# Altium footprint library CONN_HDR_2.54MM_ST.PcbLib: 159 footprints (part 8 of 13)
Each footprint in its own frame and in the unit in brackets; x right, y up, seen from the top. Pads: shape width x height; smd on the part's side, far side on the other; paste and mask are expansions set on the pad; w line width, h text height; cw(c..) or ccw(c..) is an arc to the next point about the centre after c.
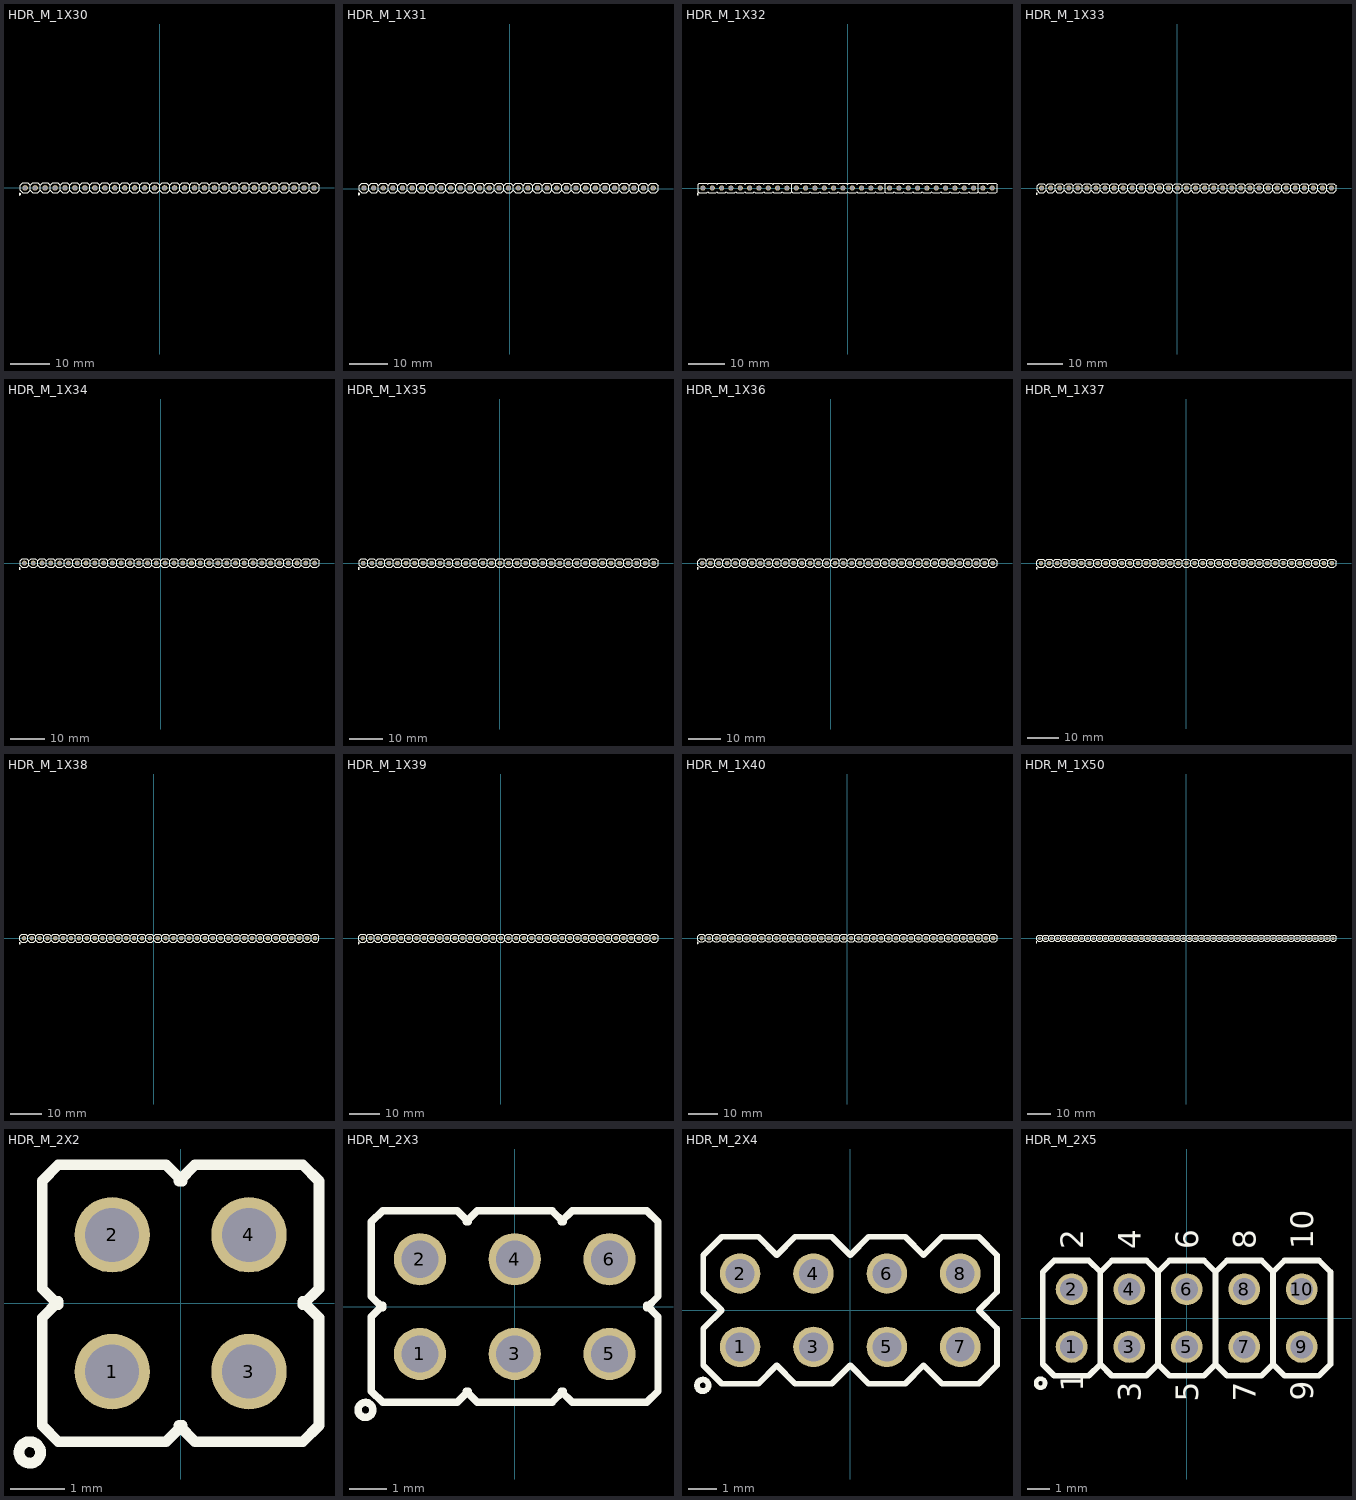
[diagram p7: the footprints below, top view; thin cyan lines are the x and y axes]

## HDR_M_1X30 [mm] "Connector; Header; 30 Position"
height 7.5
pads (30):
  round 1.4 / inner round 1.4 / far side oval 1.4x2.2 hole 1: 1(-34.29,0) 2(-31.75,0) 3(-29.21,0) 4(-26.67,0) 5(-24.13,0) 6(-21.59,0) 7(-19.05,0) 8(-16.51,0) 9(-13.97,0) 10(-11.43,0) 11(-8.89,0) 12(-6.35,0) 13(-3.81,0) 14(-1.27,0) 15(1.27,0) 16(3.81,0) 17(6.35,0) 18(8.89,0) 19(11.43,0) 20(13.97,0) 21(16.51,0) 22(19.05,0) 23(21.59,0) 24(24.13,0) 25(26.67,0) 26(29.21,0) 27(31.75,0) 28(34.29,0) 29(36.83,0) 30(39.37,0)
TopOverlay:
  drawing of 212 lines, arcs and shapes, not listed
3D body "PLS-1.step": height 8.54, standoff -2.9, extent 35.585,-1.27 38.125,1.27
3D body "PLS-1.step": height 8.54, standoff -2.9, extent 30.505,-1.27 33.045,1.27
3D body "PLS-1.step": height 8.54, standoff -2.9, extent 25.425,-1.27 27.965,1.27
3D body "PLS-1.step": height 8.54, standoff -2.9, extent 22.885,-1.27 25.425,1.27
3D body "PLS-1.step": height 8.54, standoff -2.9, extent 20.345,-1.27 22.885,1.27
3D body "PLS-1.step": height 8.54, standoff -2.9, extent 15.265,-1.27 17.805,1.27
3D body "PLS-1.step": height 8.54, standoff -2.9, extent 10.185,-1.27 12.725,1.27
3D body "PLS-1.step": height 8.54, standoff -2.9, extent 5.105,-1.27 7.645,1.27
3D body "PLS-1.step": height 8.54, standoff -2.9, extent 0.025,-1.27 2.565,1.27
3D body "PLS-1.step": height 8.54, standoff -2.9, extent -5.055,-1.27 -2.515,1.27
3D body "PLS-1.step": height 8.54, standoff -2.9, extent -7.595,-1.27 -5.055,1.27
3D body "PLS-1.step": height 8.54, standoff -2.9, extent -12.675,-1.27 -10.135,1.27
3D body "PLS-1.step": height 8.54, standoff -2.9, extent -17.755,-1.27 -15.215,1.27
3D body "PLS-1.step": height 8.54, standoff -2.9, extent -32.995,-1.27 -30.455,1.27
3D body "PLS-1.step": height 8.54, standoff -2.9, extent -35.535,-1.27 -32.995,1.27
3D body "PLS-1.step": height 8.54, standoff -2.9, extent -30.455,-1.27 -27.915,1.27
3D body "PLS-1.step": height 8.54, standoff -2.9, extent -27.915,-1.27 -25.375,1.27
3D body "PLS-1.step": height 8.54, standoff -2.9, extent -25.375,-1.27 -22.835,1.27
3D body "PLS-1.step": height 8.54, standoff -2.9, extent -22.835,-1.27 -20.295,1.27
3D body "PLS-1.step": height 8.54, standoff -2.9, extent -20.295,-1.27 -17.755,1.27
3D body "PLS-1.step": height 8.54, standoff -2.9, extent -15.215,-1.27 -12.675,1.27
3D body "PLS-1.step": height 8.54, standoff -2.9, extent -10.135,-1.27 -7.595,1.27
3D body "PLS-1.step": height 8.54, standoff -2.9, extent -2.515,-1.27 0.025,1.27
3D body "PLS-1.step": height 8.54, standoff -2.9, extent 2.565,-1.27 5.105,1.27
3D body "PLS-1.step": height 8.54, standoff -2.9, extent 7.645,-1.27 10.185,1.27
3D body "PLS-1.step": height 8.54, standoff -2.9, extent 12.725,-1.27 15.265,1.27
3D body "PLS-1.step": height 8.54, standoff -2.9, extent 17.805,-1.27 20.345,1.27
3D body "PLS-1.step": height 8.54, standoff -2.9, extent 27.965,-1.27 30.505,1.27
3D body "PLS-1.step": height 8.54, standoff -2.9, extent 33.045,-1.27 35.585,1.27
3D body "PLS-1.step": height 8.54, standoff -2.9, extent 38.125,-1.27 40.665,1.27

## HDR_M_1X31 [mm] "Connector; Header; 31 Position"
height 7.5
pads (31):
  round 1.4 / inner round 1.4 / far side oval 1.4x2.2 hole 1: 1(-38.354,0.254) 2(-35.814,0.254) 3(-33.274,0.254) 4(-30.734,0.254) 5(-28.194,0.254) 6(-25.654,0.254) 7(-23.114,0.254) 8(-20.574,0.254) 9(-18.034,0.254) 10(-15.494,0.254) 11(-12.954,0.254) 12(-10.414,0.254) 13(-7.874,0.254) 14(-5.334,0.254) 15(-2.794,0.254) 16(-0.254,0.254) 17(2.286,0.254) 18(4.826,0.254) 19(7.366,0.254) 20(9.906,0.254) 21(12.446,0.254) 22(14.986,0.254) 23(17.526,0.254) 24(20.066,0.254) 25(22.606,0.254) 26(25.146,0.254) 27(27.686,0.254) 28(30.226,0.254) 29(32.766,0.254) 30(35.306,0.254) 31(37.846,0.254)
TopOverlay:
  drawing of 219 lines, arcs and shapes, not listed
3D body "PLS-1.step": height 8.54, standoff -2.9, extent 34.061,-1.016 36.601,1.524
3D body "PLS-1.step": height 8.54, standoff -2.9, extent 28.981,-1.016 31.521,1.524
3D body "PLS-1.step": height 8.54, standoff -2.9, extent 23.901,-1.016 26.441,1.524
3D body "PLS-1.step": height 8.54, standoff -2.9, extent 13.741,-1.016 16.281,1.524
3D body "PLS-1.step": height 8.54, standoff -2.9, extent 8.661,-1.016 11.201,1.524
3D body "PLS-1.step": height 8.54, standoff -2.9, extent 3.581,-1.016 6.121,1.524
3D body "PLS-1.step": height 8.54, standoff -2.9, extent -1.499,-1.016 1.041,1.524
3D body "PLS-1.step": height 8.54, standoff -2.9, extent -6.579,-1.016 -4.039,1.524
3D body "PLS-1.step": height 8.54, standoff -2.9, extent -14.199,-1.016 -11.659,1.524
3D body "PLS-1.step": height 8.54, standoff -2.9, extent -19.279,-1.016 -16.739,1.524
3D body "PLS-1.step": height 8.54, standoff -2.9, extent -24.359,-1.016 -21.819,1.524
3D body "PLS-1.step": height 8.54, standoff -2.9, extent -26.899,-1.016 -24.359,1.524
3D body "PLS-1.step": height 8.54, standoff -2.9, extent -29.439,-1.016 -26.899,1.524
3D body "PLS-1.step": height 8.54, standoff -2.9, extent -31.979,-1.016 -29.439,1.524
3D body "PLS-1.step": height 8.54, standoff -2.9, extent -34.519,-1.016 -31.979,1.524
3D body "PLS-1.step": height 8.54, standoff -2.9, extent -39.599,-1.016 -37.059,1.524
3D body "PLS-1.step": height 8.54, standoff -2.9, extent -37.059,-1.016 -34.519,1.524
3D body "PLS-1.step": height 8.54, standoff -2.9, extent -21.819,-1.016 -19.279,1.524
3D body "PLS-1.step": height 8.54, standoff -2.9, extent -16.739,-1.016 -14.199,1.524
3D body "PLS-1.step": height 8.54, standoff -2.9, extent -11.659,-1.016 -9.119,1.524
3D body "PLS-1.step": height 8.54, standoff -2.9, extent -9.119,-1.016 -6.579,1.524
3D body "PLS-1.step": height 8.54, standoff -2.9, extent -4.039,-1.016 -1.499,1.524
3D body "PLS-1.step": height 8.54, standoff -2.9, extent 1.041,-1.016 3.581,1.524
3D body "PLS-1.step": height 8.54, standoff -2.9, extent 6.121,-1.016 8.661,1.524
3D body "PLS-1.step": height 8.54, standoff -2.9, extent 11.201,-1.016 13.741,1.524
3D body "PLS-1.step": height 8.54, standoff -2.9, extent 16.281,-1.016 18.821,1.524
3D body "PLS-1.step": height 8.54, standoff -2.9, extent 18.821,-1.016 21.361,1.524
3D body "PLS-1.step": height 8.54, standoff -2.9, extent 21.361,-1.016 23.901,1.524
3D body "PLS-1.step": height 8.54, standoff -2.9, extent 26.441,-1.016 28.981,1.524
3D body "PLS-1.step": height 8.54, standoff -2.9, extent 31.521,-1.016 34.061,1.524
3D body "PLS-1.step": height 8.54, standoff -2.9, extent 36.601,-1.016 39.141,1.524

## HDR_M_1X32 [mm] "Connector; Header; 32 Position"
pads (32):
  round 1.4 / inner round 1.4 / far side oval 1.4x2.2 hole 1 mask+0.1: 1(-39.37,0) 2(-36.83,0) 3(-34.29,0) 4(-31.75,0) 5(-29.21,0) 6(-26.67,0) 7(-24.13,0) 8(-21.59,0) 9(-19.05,0) 10(-16.51,0) 11(-13.97,0) 12(-11.43,0) 13(-8.89,0) 14(-6.35,0) 15(-3.81,0) 16(-1.27,0) 17(1.27,0) 18(3.81,0) 19(6.35,0) 20(8.89,0) 21(11.43,0) 22(13.97,0) 23(16.51,0) 24(19.05,0) 25(21.59,0) 26(24.13,0) 27(26.67,0) 28(29.21,0) 29(31.75,0) 30(34.29,0) 31(36.83,0) 32(39.37,0)
TopOverlay:
  drawing of 198 lines, arcs and shapes, not listed
3D body "User Library-Header_Male_1Pin.STEP": height 8.54, standoff -3, extent 38.1,-1.245 40.64,1.245
3D body "User Library-Header_Male_1Pin.STEP": height 8.54, standoff -3, extent 35.56,-1.245 38.1,1.245
3D body "User Library-Header_Male_1Pin.STEP": height 8.54, standoff -3, extent 33.02,-1.245 35.56,1.245
3D body "User Library-Header_Male_1Pin.STEP": height 8.54, standoff -3, extent 30.48,-1.245 33.02,1.245
3D body "User Library-Header_Male_1Pin.STEP": height 8.54, standoff -3, extent 27.94,-1.245 30.48,1.245
3D body "User Library-Header_Male_1Pin.STEP": height 8.54, standoff -3, extent 25.4,-1.245 27.94,1.245
3D body "User Library-Header_Male_1Pin.STEP": height 8.54, standoff -3, extent 22.86,-1.245 25.4,1.245
3D body "User Library-Header_Male_1Pin.STEP": height 8.54, standoff -3, extent 20.32,-1.245 22.86,1.245
3D body "User Library-Header_Male_1Pin.STEP": height 8.54, standoff -3, extent 17.78,-1.245 20.32,1.245
3D body "User Library-Header_Male_1Pin.STEP": height 8.54, standoff -3, extent 15.24,-1.245 17.78,1.245
3D body "User Library-Header_Male_1Pin.STEP": height 8.54, standoff -3, extent 12.7,-1.245 15.24,1.245
3D body "User Library-Header_Male_1Pin.STEP": height 8.54, standoff -3, extent 10.16,-1.245 12.7,1.245
3D body "User Library-Header_Male_1Pin.STEP": height 8.54, standoff -3, extent 7.62,-1.245 10.16,1.245
3D body "User Library-Header_Male_1Pin.STEP": height 8.54, standoff -3, extent 5.08,-1.245 7.62,1.245
3D body "User Library-Header_Male_1Pin.STEP": height 8.54, standoff -3, extent 2.54,-1.245 5.08,1.245
3D body "User Library-Header_Male_1Pin.STEP": height 8.54, standoff -3, extent 0,-1.245 2.54,1.245
3D body "User Library-Header_Male_1Pin.STEP": height 8.54, standoff -3, extent -2.54,-1.245 0,1.245
3D body "User Library-Header_Male_1Pin.STEP": height 8.54, standoff -3, extent -5.08,-1.245 -2.54,1.245
3D body "User Library-Header_Male_1Pin.STEP": height 8.54, standoff -3, extent -7.62,-1.245 -5.08,1.245
3D body "User Library-Header_Male_1Pin.STEP": height 8.54, standoff -3, extent -10.16,-1.245 -7.62,1.245
3D body "User Library-Header_Male_1Pin.STEP": height 8.54, standoff -3, extent -12.7,-1.245 -10.16,1.245
3D body "User Library-Header_Male_1Pin.STEP": height 8.54, standoff -3, extent -15.24,-1.245 -12.7,1.245
3D body "User Library-Header_Male_1Pin.STEP": height 8.54, standoff -3, extent -17.78,-1.245 -15.24,1.245
3D body "User Library-Header_Male_1Pin.STEP": height 8.54, standoff -3, extent -20.32,-1.245 -17.78,1.245
3D body "User Library-Header_Male_1Pin.STEP": height 8.54, standoff -3, extent -22.86,-1.245 -20.32,1.245
3D body "User Library-Header_Male_1Pin.STEP": height 8.54, standoff -3, extent -25.4,-1.245 -22.86,1.245
3D body "User Library-Header_Male_1Pin.STEP": height 8.54, standoff -3, extent -27.94,-1.245 -25.4,1.245
3D body "User Library-Header_Male_1Pin.STEP": height 8.54, standoff -3, extent -30.48,-1.245 -27.94,1.245
3D body "User Library-Header_Male_1Pin.STEP": height 8.54, standoff -3, extent -33.02,-1.245 -30.48,1.245
3D body "User Library-Header_Male_1Pin.STEP": height 8.54, standoff -3, extent -35.56,-1.245 -33.02,1.245
3D body "User Library-Header_Male_1Pin.STEP": height 8.54, standoff -3, extent -38.1,-1.245 -35.56,1.245
3D body "User Library-Header_Male_1Pin.STEP": height 8.54, standoff -3, extent -40.64,-1.245 -38.1,1.245

## HDR_M_1X33 [mm] "Connector; Header; 33 Position"
height 7.5
pads (33):
  round 1.4 / inner round 1.4 / far side oval 1.4x2.2 hole 1: 1(-38.1,0) 2(-35.56,0) 3(-33.02,0) 4(-30.48,0) 5(-27.94,0) 6(-25.4,0) 7(-22.86,0) 8(-20.32,0) 9(-17.78,0) 10(-15.24,0) 11(-12.7,0) 12(-10.16,0) 13(-7.62,0) 14(-5.08,0) 15(-2.54,0) 16(0,0) 17(2.54,0) 18(5.08,0) 19(7.62,0) 20(10.16,0) 21(12.7,0) 22(15.24,0) 23(17.78,0) 24(20.32,0) 25(22.86,0) 26(25.4,0) 27(27.94,0) 28(30.48,0) 29(33.02,0) 30(35.56,0) 31(38.1,0) 32(40.64,0) 33(43.18,0)
TopOverlay:
  drawing of 233 lines, arcs and shapes, not listed
3D body "PLS-1.step": height 8.54, standoff -2.9, extent 39.395,-1.27 41.935,1.27
3D body "PLS-1.step": height 8.54, standoff -2.9, extent 34.315,-1.27 36.855,1.27
3D body "PLS-1.step": height 8.54, standoff -2.9, extent 29.235,-1.27 31.775,1.27
3D body "PLS-1.step": height 8.54, standoff -2.9, extent 24.155,-1.27 26.695,1.27
3D body "PLS-1.step": height 8.54, standoff -2.9, extent 13.995,-1.27 16.535,1.27
3D body "PLS-1.step": height 8.54, standoff -2.9, extent 8.915,-1.27 11.455,1.27
3D body "PLS-1.step": height 8.54, standoff -2.9, extent 3.835,-1.27 6.375,1.27
3D body "PLS-1.step": height 8.54, standoff -2.9, extent -1.245,-1.27 1.295,1.27
3D body "PLS-1.step": height 8.54, standoff -2.9, extent -6.325,-1.27 -3.785,1.27
3D body "PLS-1.step": height 8.54, standoff -2.9, extent -13.945,-1.27 -11.405,1.27
3D body "PLS-1.step": height 8.54, standoff -2.9, extent -19.025,-1.27 -16.485,1.27
3D body "PLS-1.step": height 8.54, standoff -2.9, extent -24.105,-1.27 -21.565,1.27
3D body "PLS-1.step": height 8.54, standoff -2.9, extent -26.645,-1.27 -24.105,1.27
3D body "PLS-1.step": height 8.54, standoff -2.9, extent -29.185,-1.27 -26.645,1.27
3D body "PLS-1.step": height 8.54, standoff -2.9, extent -31.725,-1.27 -29.185,1.27
3D body "PLS-1.step": height 8.54, standoff -2.9, extent -34.265,-1.27 -31.725,1.27
3D body "PLS-1.step": height 8.54, standoff -2.9, extent -39.345,-1.27 -36.805,1.27
3D body "PLS-1.step": height 8.54, standoff -2.9, extent -36.805,-1.27 -34.265,1.27
3D body "PLS-1.step": height 8.54, standoff -2.9, extent -21.565,-1.27 -19.025,1.27
3D body "PLS-1.step": height 8.54, standoff -2.9, extent -16.485,-1.27 -13.945,1.27
3D body "PLS-1.step": height 8.54, standoff -2.9, extent -11.405,-1.27 -8.865,1.27
3D body "PLS-1.step": height 8.54, standoff -2.9, extent -8.865,-1.27 -6.325,1.27
3D body "PLS-1.step": height 8.54, standoff -2.9, extent -3.785,-1.27 -1.245,1.27
3D body "PLS-1.step": height 8.54, standoff -2.9, extent 1.295,-1.27 3.835,1.27
3D body "PLS-1.step": height 8.54, standoff -2.9, extent 6.375,-1.27 8.915,1.27
3D body "PLS-1.step": height 8.54, standoff -2.9, extent 11.455,-1.27 13.995,1.27
3D body "PLS-1.step": height 8.54, standoff -2.9, extent 16.535,-1.27 19.075,1.27
3D body "PLS-1.step": height 8.54, standoff -2.9, extent 19.075,-1.27 21.615,1.27
3D body "PLS-1.step": height 8.54, standoff -2.9, extent 21.615,-1.27 24.155,1.27
3D body "PLS-1.step": height 8.54, standoff -2.9, extent 26.695,-1.27 29.235,1.27
3D body "PLS-1.step": height 8.54, standoff -2.9, extent 31.775,-1.27 34.315,1.27
3D body "PLS-1.step": height 8.54, standoff -2.9, extent 36.855,-1.27 39.395,1.27
3D body "PLS-1.step": height 8.54, standoff -2.9, extent 41.935,-1.27 44.475,1.27

## HDR_M_1X34 [mm] "Connector; Header; 34 Position"
height 7.5
pads (34):
  round 1.4 / inner round 1.4 / far side oval 1.4x2.2 hole 1: 1(-39.37,0) 2(-36.83,0) 3(-34.29,0) 4(-31.75,0) 5(-29.21,0) 6(-26.67,0) 7(-24.13,0) 8(-21.59,0) 9(-19.05,0) 10(-16.51,0) 11(-13.97,0) 12(-11.43,0) 13(-8.89,0) 14(-6.35,0) 15(-3.81,0) 16(-1.27,0) 17(1.27,0) 18(3.81,0) 19(6.35,0) 20(8.89,0) 21(11.43,0) 22(13.97,0) 23(16.51,0) 24(19.05,0) 25(21.59,0) 26(24.13,0) 27(26.67,0) 28(29.21,0) 29(31.75,0) 30(34.29,0) 31(36.83,0) 32(39.37,0) 33(41.91,0) 34(44.45,0)
TopOverlay:
  drawing of 240 lines, arcs and shapes, not listed
3D body "PLS-1.step": height 8.54, standoff -2.9, extent 43.205,-1.27 45.745,1.27
3D body "PLS-1.step": height 8.54, standoff -2.9, extent 38.125,-1.27 40.665,1.27
3D body "PLS-1.step": height 8.54, standoff -2.9, extent 33.045,-1.27 35.585,1.27
3D body "PLS-1.step": height 8.54, standoff -2.9, extent 27.965,-1.27 30.505,1.27
3D body "PLS-1.step": height 8.54, standoff -2.9, extent 22.885,-1.27 25.425,1.27
3D body "PLS-1.step": height 8.54, standoff -2.9, extent 12.725,-1.27 15.265,1.27
3D body "PLS-1.step": height 8.54, standoff -2.9, extent 7.645,-1.27 10.185,1.27
3D body "PLS-1.step": height 8.54, standoff -2.9, extent 2.565,-1.27 5.105,1.27
3D body "PLS-1.step": height 8.54, standoff -2.9, extent -2.515,-1.27 0.025,1.27
3D body "PLS-1.step": height 8.54, standoff -2.9, extent -7.595,-1.27 -5.055,1.27
3D body "PLS-1.step": height 8.54, standoff -2.9, extent -15.215,-1.27 -12.675,1.27
3D body "PLS-1.step": height 8.54, standoff -2.9, extent -20.295,-1.27 -17.755,1.27
3D body "PLS-1.step": height 8.54, standoff -2.9, extent -25.375,-1.27 -22.835,1.27
3D body "PLS-1.step": height 8.54, standoff -2.9, extent -27.915,-1.27 -25.375,1.27
3D body "PLS-1.step": height 8.54, standoff -2.9, extent -30.455,-1.27 -27.915,1.27
3D body "PLS-1.step": height 8.54, standoff -2.9, extent -32.995,-1.27 -30.455,1.27
3D body "PLS-1.step": height 8.54, standoff -2.9, extent -35.535,-1.27 -32.995,1.27
3D body "PLS-1.step": height 8.54, standoff -2.9, extent -40.615,-1.27 -38.075,1.27
3D body "PLS-1.step": height 8.54, standoff -2.9, extent -38.075,-1.27 -35.535,1.27
3D body "PLS-1.step": height 8.54, standoff -2.9, extent -22.835,-1.27 -20.295,1.27
3D body "PLS-1.step": height 8.54, standoff -2.9, extent -17.755,-1.27 -15.215,1.27
3D body "PLS-1.step": height 8.54, standoff -2.9, extent -12.675,-1.27 -10.135,1.27
3D body "PLS-1.step": height 8.54, standoff -2.9, extent -10.135,-1.27 -7.595,1.27
3D body "PLS-1.step": height 8.54, standoff -2.9, extent -5.055,-1.27 -2.515,1.27
3D body "PLS-1.step": height 8.54, standoff -2.9, extent 0.025,-1.27 2.565,1.27
3D body "PLS-1.step": height 8.54, standoff -2.9, extent 5.105,-1.27 7.645,1.27
3D body "PLS-1.step": height 8.54, standoff -2.9, extent 10.185,-1.27 12.725,1.27
3D body "PLS-1.step": height 8.54, standoff -2.9, extent 15.265,-1.27 17.805,1.27
3D body "PLS-1.step": height 8.54, standoff -2.9, extent 17.805,-1.27 20.345,1.27
3D body "PLS-1.step": height 8.54, standoff -2.9, extent 20.345,-1.27 22.885,1.27
3D body "PLS-1.step": height 8.54, standoff -2.9, extent 25.425,-1.27 27.965,1.27
3D body "PLS-1.step": height 8.54, standoff -2.9, extent 30.505,-1.27 33.045,1.27
3D body "PLS-1.step": height 8.54, standoff -2.9, extent 35.585,-1.27 38.125,1.27
3D body "PLS-1.step": height 8.54, standoff -2.9, extent 40.665,-1.27 43.205,1.27

## HDR_M_1X35 [mm] "Connector; Header; 36 Position"
height 7.5
pads (35):
  round 1.4 / inner round 1.4 / far side oval 1.4x2.2 hole 1: 1(-40.64,0) 2(-38.1,0) 3(-35.56,0) 4(-33.02,0) 5(-30.48,0) 6(-27.94,0) 7(-25.4,0) 8(-22.86,0) 9(-20.32,0) 10(-17.78,0) 11(-15.24,0) 12(-12.7,0) 13(-10.16,0) 14(-7.62,0) 15(-5.08,0) 16(-2.54,0) 17(0,0) 18(2.54,0) 19(5.08,0) 20(7.62,0) 21(10.16,0) 22(12.7,0) 23(15.24,0) 24(17.78,0) 25(20.32,0) 26(22.86,0) 27(25.4,0) 28(27.94,0) 29(30.48,0) 30(33.02,0) 31(35.56,0) 32(38.1,0) 33(40.64,0) 34(43.18,0) 35(45.72,0)
TopOverlay:
  drawing of 247 lines, arcs and shapes, not listed
3D body "PLS-1.step": height 8.54, standoff -2.9, extent 41.935,-1.27 44.475,1.27
3D body "PLS-1.step": height 8.54, standoff -2.9, extent 36.855,-1.27 39.395,1.27
3D body "PLS-1.step": height 8.54, standoff -2.9, extent 31.775,-1.27 34.315,1.27
3D body "PLS-1.step": height 8.54, standoff -2.9, extent 26.695,-1.27 29.235,1.27
3D body "PLS-1.step": height 8.54, standoff -2.9, extent 21.615,-1.27 24.155,1.27
3D body "PLS-1.step": height 8.54, standoff -2.9, extent 11.455,-1.27 13.995,1.27
3D body "PLS-1.step": height 8.54, standoff -2.9, extent 6.375,-1.27 8.915,1.27
3D body "PLS-1.step": height 8.54, standoff -2.9, extent 1.295,-1.27 3.835,1.27
3D body "PLS-1.step": height 8.54, standoff -2.9, extent -3.785,-1.27 -1.245,1.27
3D body "PLS-1.step": height 8.54, standoff -2.9, extent -8.865,-1.27 -6.325,1.27
3D body "PLS-1.step": height 8.54, standoff -2.9, extent -16.485,-1.27 -13.945,1.27
3D body "PLS-1.step": height 8.54, standoff -2.9, extent -21.565,-1.27 -19.025,1.27
3D body "PLS-1.step": height 8.54, standoff -2.9, extent -26.645,-1.27 -24.105,1.27
3D body "PLS-1.step": height 8.54, standoff -2.9, extent -29.185,-1.27 -26.645,1.27
3D body "PLS-1.step": height 8.54, standoff -2.9, extent -31.725,-1.27 -29.185,1.27
3D body "PLS-1.step": height 8.54, standoff -2.9, extent -34.265,-1.27 -31.725,1.27
3D body "PLS-1.step": height 8.54, standoff -2.9, extent -36.805,-1.27 -34.265,1.27
3D body "PLS-1.step": height 8.54, standoff -2.9, extent -41.885,-1.27 -39.345,1.27
3D body "PLS-1.step": height 8.54, standoff -2.9, extent -39.345,-1.27 -36.805,1.27
3D body "PLS-1.step": height 8.54, standoff -2.9, extent -24.105,-1.27 -21.565,1.27
3D body "PLS-1.step": height 8.54, standoff -2.9, extent -19.025,-1.27 -16.485,1.27
3D body "PLS-1.step": height 8.54, standoff -2.9, extent -13.945,-1.27 -11.405,1.27
3D body "PLS-1.step": height 8.54, standoff -2.9, extent -11.405,-1.27 -8.865,1.27
3D body "PLS-1.step": height 8.54, standoff -2.9, extent -6.325,-1.27 -3.785,1.27
3D body "PLS-1.step": height 8.54, standoff -2.9, extent -1.245,-1.27 1.295,1.27
3D body "PLS-1.step": height 8.54, standoff -2.9, extent 3.835,-1.27 6.375,1.27
3D body "PLS-1.step": height 8.54, standoff -2.9, extent 8.915,-1.27 11.455,1.27
3D body "PLS-1.step": height 8.54, standoff -2.9, extent 13.995,-1.27 16.535,1.27
3D body "PLS-1.step": height 8.54, standoff -2.9, extent 16.535,-1.27 19.075,1.27
3D body "PLS-1.step": height 8.54, standoff -2.9, extent 19.075,-1.27 21.615,1.27
3D body "PLS-1.step": height 8.54, standoff -2.9, extent 24.155,-1.27 26.695,1.27
3D body "PLS-1.step": height 8.54, standoff -2.9, extent 29.235,-1.27 31.775,1.27
3D body "PLS-1.step": height 8.54, standoff -2.9, extent 34.315,-1.27 36.855,1.27
3D body "PLS-1.step": height 8.54, standoff -2.9, extent 39.395,-1.27 41.935,1.27
3D body "PLS-1.step": height 8.54, standoff -2.9, extent 44.475,-1.27 47.015,1.27

## HDR_M_1X36 [mm] "Connector; Header; 35 Position"
height 7.5
pads (36):
  round 1.4 / inner round 1.4 / far side oval 1.4x2.2 hole 1: 1(-39.37,0) 2(-36.83,0) 3(-34.29,0) 4(-31.75,0) 5(-29.21,0) 6(-26.67,0) 7(-24.13,0) 8(-21.59,0) 9(-19.05,0) 10(-16.51,0) 11(-13.97,0) 12(-11.43,0) 13(-8.89,0) 14(-6.35,0) 15(-3.81,0) 16(-1.27,0) 17(1.27,0) 18(3.81,0) 19(6.35,0) 20(8.89,0) 21(11.43,0) 22(13.97,0) 23(16.51,0) 24(19.05,0) 25(21.59,0) 26(24.13,0) 27(26.67,0) 28(29.21,0) 29(31.75,0) 30(34.29,0) 31(36.83,0) 32(39.37,0) 33(41.91,0) 34(44.45,0) 35(46.99,0) 36(49.53,0)
TopOverlay:
  drawing of 254 lines, arcs and shapes, not listed
3D body "PLS-1.step": height 8.54, standoff -2.9, extent 48.285,-1.27 50.825,1.27
3D body "PLS-1.step": height 8.54, standoff -2.9, extent 43.205,-1.27 45.745,1.27
3D body "PLS-1.step": height 8.54, standoff -2.9, extent 38.125,-1.27 40.665,1.27
3D body "PLS-1.step": height 8.54, standoff -2.9, extent 33.045,-1.27 35.585,1.27
3D body "PLS-1.step": height 8.54, standoff -2.9, extent 27.965,-1.27 30.505,1.27
3D body "PLS-1.step": height 8.54, standoff -2.9, extent 22.885,-1.27 25.425,1.27
3D body "PLS-1.step": height 8.54, standoff -2.9, extent 12.725,-1.27 15.265,1.27
3D body "PLS-1.step": height 8.54, standoff -2.9, extent 7.645,-1.27 10.185,1.27
3D body "PLS-1.step": height 8.54, standoff -2.9, extent 2.565,-1.27 5.105,1.27
3D body "PLS-1.step": height 8.54, standoff -2.9, extent -2.515,-1.27 0.025,1.27
3D body "PLS-1.step": height 8.54, standoff -2.9, extent -7.595,-1.27 -5.055,1.27
3D body "PLS-1.step": height 8.54, standoff -2.9, extent -15.215,-1.27 -12.675,1.27
3D body "PLS-1.step": height 8.54, standoff -2.9, extent -20.295,-1.27 -17.755,1.27
3D body "PLS-1.step": height 8.54, standoff -2.9, extent -25.375,-1.27 -22.835,1.27
3D body "PLS-1.step": height 8.54, standoff -2.9, extent -27.915,-1.27 -25.375,1.27
3D body "PLS-1.step": height 8.54, standoff -2.9, extent -30.455,-1.27 -27.915,1.27
3D body "PLS-1.step": height 8.54, standoff -2.9, extent -32.995,-1.27 -30.455,1.27
3D body "PLS-1.step": height 8.54, standoff -2.9, extent -35.535,-1.27 -32.995,1.27
3D body "PLS-1.step": height 8.54, standoff -2.9, extent -40.615,-1.27 -38.075,1.27
3D body "PLS-1.step": height 8.54, standoff -2.9, extent -38.075,-1.27 -35.535,1.27
3D body "PLS-1.step": height 8.54, standoff -2.9, extent -22.835,-1.27 -20.295,1.27
3D body "PLS-1.step": height 8.54, standoff -2.9, extent -17.755,-1.27 -15.215,1.27
3D body "PLS-1.step": height 8.54, standoff -2.9, extent -12.675,-1.27 -10.135,1.27
3D body "PLS-1.step": height 8.54, standoff -2.9, extent -10.135,-1.27 -7.595,1.27
3D body "PLS-1.step": height 8.54, standoff -2.9, extent -5.055,-1.27 -2.515,1.27
3D body "PLS-1.step": height 8.54, standoff -2.9, extent 0.025,-1.27 2.565,1.27
3D body "PLS-1.step": height 8.54, standoff -2.9, extent 5.105,-1.27 7.645,1.27
3D body "PLS-1.step": height 8.54, standoff -2.9, extent 10.185,-1.27 12.725,1.27
3D body "PLS-1.step": height 8.54, standoff -2.9, extent 15.265,-1.27 17.805,1.27
3D body "PLS-1.step": height 8.54, standoff -2.9, extent 17.805,-1.27 20.345,1.27
3D body "PLS-1.step": height 8.54, standoff -2.9, extent 20.345,-1.27 22.885,1.27
3D body "PLS-1.step": height 8.54, standoff -2.9, extent 25.425,-1.27 27.965,1.27
3D body "PLS-1.step": height 8.54, standoff -2.9, extent 30.505,-1.27 33.045,1.27
3D body "PLS-1.step": height 8.54, standoff -2.9, extent 35.585,-1.27 38.125,1.27
3D body "PLS-1.step": height 8.54, standoff -2.9, extent 40.665,-1.27 43.205,1.27
3D body "PLS-1.step": height 8.54, standoff -2.9, extent 45.745,-1.27 48.285,1.27

## HDR_M_1X37 [mm] "Connector; Header; 37 Position"
height 7.5
pads (37):
  round 1.4 / inner round 1.4 / far side oval 1.4x2.2 hole 1: 1(-45.72,0) 2(-43.18,0) 3(-40.64,0) 4(-38.1,0) 5(-35.56,0) 6(-33.02,0) 7(-30.48,0) 8(-27.94,0) 9(-25.4,0) 10(-22.86,0) 11(-20.32,0) 12(-17.78,0) 13(-15.24,0) 14(-12.7,0) 15(-10.16,0) 16(-7.62,0) 17(-5.08,0) 18(-2.54,0) 19(0,0) 20(2.54,0) 21(5.08,0) 22(7.62,0) 23(10.16,0) 24(12.7,0) 25(15.24,0) 26(17.78,0) 27(20.32,0) 28(22.86,0) 29(25.4,0) 30(27.94,0) 31(30.48,0) 32(33.02,0) 33(35.56,0) 34(38.1,0) 35(40.64,0) 36(43.18,0) 37(45.72,0)
TopOverlay:
  drawing of 261 lines, arcs and shapes, not listed
3D body "PLS-1.step": height 8.54, standoff -2.9, extent 41.935,-1.27 44.475,1.27
3D body "PLS-1.step": height 8.54, standoff -2.9, extent 36.855,-1.27 39.395,1.27
3D body "PLS-1.step": height 8.54, standoff -2.9, extent 31.775,-1.27 34.315,1.27
3D body "PLS-1.step": height 8.54, standoff -2.9, extent 26.695,-1.27 29.235,1.27
3D body "PLS-1.step": height 8.54, standoff -2.9, extent 21.615,-1.27 24.155,1.27
3D body "PLS-1.step": height 8.54, standoff -2.9, extent 16.535,-1.27 19.075,1.27
3D body "PLS-1.step": height 8.54, standoff -2.9, extent 6.375,-1.27 8.915,1.27
3D body "PLS-1.step": height 8.54, standoff -2.9, extent 1.295,-1.27 3.835,1.27
3D body "PLS-1.step": height 8.54, standoff -2.9, extent -3.785,-1.27 -1.245,1.27
3D body "PLS-1.step": height 8.54, standoff -2.9, extent -8.865,-1.27 -6.325,1.27
3D body "PLS-1.step": height 8.54, standoff -2.9, extent -13.945,-1.27 -11.405,1.27
3D body "PLS-1.step": height 8.54, standoff -2.9, extent -21.565,-1.27 -19.025,1.27
3D body "PLS-1.step": height 8.54, standoff -2.9, extent -26.645,-1.27 -24.105,1.27
3D body "PLS-1.step": height 8.54, standoff -2.9, extent -31.725,-1.27 -29.185,1.27
3D body "PLS-1.step": height 8.54, standoff -2.9, extent -34.265,-1.27 -31.725,1.27
3D body "PLS-1.step": height 8.54, standoff -2.9, extent -36.805,-1.27 -34.265,1.27
3D body "PLS-1.step": height 8.54, standoff -2.9, extent -39.345,-1.27 -36.805,1.27
3D body "PLS-1.step": height 8.54, standoff -2.9, extent -41.885,-1.27 -39.345,1.27
3D body "PLS-1.step": height 8.54, standoff -2.9, extent -46.965,-1.27 -44.425,1.27
3D body "PLS-1.step": height 8.54, standoff -2.9, extent -44.425,-1.27 -41.885,1.27
3D body "PLS-1.step": height 8.54, standoff -2.9, extent -29.185,-1.27 -26.645,1.27
3D body "PLS-1.step": height 8.54, standoff -2.9, extent -24.105,-1.27 -21.565,1.27
3D body "PLS-1.step": height 8.54, standoff -2.9, extent -19.025,-1.27 -16.485,1.27
3D body "PLS-1.step": height 8.54, standoff -2.9, extent -16.485,-1.27 -13.945,1.27
3D body "PLS-1.step": height 8.54, standoff -2.9, extent -11.405,-1.27 -8.865,1.27
3D body "PLS-1.step": height 8.54, standoff -2.9, extent -6.325,-1.27 -3.785,1.27
3D body "PLS-1.step": height 8.54, standoff -2.9, extent -1.245,-1.27 1.295,1.27
3D body "PLS-1.step": height 8.54, standoff -2.9, extent 3.835,-1.27 6.375,1.27
3D body "PLS-1.step": height 8.54, standoff -2.9, extent 8.915,-1.27 11.455,1.27
3D body "PLS-1.step": height 8.54, standoff -2.9, extent 11.455,-1.27 13.995,1.27
3D body "PLS-1.step": height 8.54, standoff -2.9, extent 13.995,-1.27 16.535,1.27
3D body "PLS-1.step": height 8.54, standoff -2.9, extent 19.075,-1.27 21.615,1.27
3D body "PLS-1.step": height 8.54, standoff -2.9, extent 24.155,-1.27 26.695,1.27
3D body "PLS-1.step": height 8.54, standoff -2.9, extent 29.235,-1.27 31.775,1.27
3D body "PLS-1.step": height 8.54, standoff -2.9, extent 34.315,-1.27 36.855,1.27
3D body "PLS-1.step": height 8.54, standoff -2.9, extent 39.395,-1.27 41.935,1.27
3D body "PLS-1.step": height 8.54, standoff -2.9, extent 44.475,-1.27 47.015,1.27

## HDR_M_1X38 [mm] "Connector; Header; 38 Position"
height 7.5
pads (38):
  round 1.4 / inner round 1.4 / far side oval 1.4x2.2 hole 1: 1(-41.91,0) 2(-39.37,0) 3(-36.83,0) 4(-34.29,0) 5(-31.75,0) 6(-29.21,0) 7(-26.67,0) 8(-24.13,0) 9(-21.59,0) 10(-19.05,0) 11(-16.51,0) 12(-13.97,0) 13(-11.43,0) 14(-8.89,0) 15(-6.35,0) 16(-3.81,0) 17(-1.27,0) 18(1.27,0) 19(3.81,0) 20(6.35,0) 21(8.89,0) 22(11.43,0) 23(13.97,0) 24(16.51,0) 25(19.05,0) 26(21.59,0) 27(24.13,0) 28(26.67,0) 29(29.21,0) 30(31.75,0) 31(34.29,0) 32(36.83,0) 33(39.37,0) 34(41.91,0) 35(44.45,0) 36(46.99,0) 37(49.53,0) 38(52.07,0)
TopOverlay:
  drawing of 268 lines, arcs and shapes, not listed
3D body "PLS-1.step": height 8.54, standoff -2.9, extent 50.825,-1.27 53.365,1.27
3D body "PLS-1.step": height 8.54, standoff -2.9, extent 45.745,-1.27 48.285,1.27
3D body "PLS-1.step": height 8.54, standoff -2.9, extent 40.665,-1.27 43.205,1.27
3D body "PLS-1.step": height 8.54, standoff -2.9, extent 35.585,-1.27 38.125,1.27
3D body "PLS-1.step": height 8.54, standoff -2.9, extent 30.505,-1.27 33.045,1.27
3D body "PLS-1.step": height 8.54, standoff -2.9, extent 25.425,-1.27 27.965,1.27
3D body "PLS-1.step": height 8.54, standoff -2.9, extent 20.345,-1.27 22.885,1.27
3D body "PLS-1.step": height 8.54, standoff -2.9, extent 10.185,-1.27 12.725,1.27
3D body "PLS-1.step": height 8.54, standoff -2.9, extent 5.105,-1.27 7.645,1.27
3D body "PLS-1.step": height 8.54, standoff -2.9, extent 0.025,-1.27 2.565,1.27
3D body "PLS-1.step": height 8.54, standoff -2.9, extent -5.055,-1.27 -2.515,1.27
3D body "PLS-1.step": height 8.54, standoff -2.9, extent -10.135,-1.27 -7.595,1.27
3D body "PLS-1.step": height 8.54, standoff -2.9, extent -17.755,-1.27 -15.215,1.27
3D body "PLS-1.step": height 8.54, standoff -2.9, extent -22.835,-1.27 -20.295,1.27
3D body "PLS-1.step": height 8.54, standoff -2.9, extent -27.915,-1.27 -25.375,1.27
3D body "PLS-1.step": height 8.54, standoff -2.9, extent -30.455,-1.27 -27.915,1.27
3D body "PLS-1.step": height 8.54, standoff -2.9, extent -32.995,-1.27 -30.455,1.27
3D body "PLS-1.step": height 8.54, standoff -2.9, extent -35.535,-1.27 -32.995,1.27
3D body "PLS-1.step": height 8.54, standoff -2.9, extent -38.075,-1.27 -35.535,1.27
3D body "PLS-1.step": height 8.54, standoff -2.9, extent -43.155,-1.27 -40.615,1.27
3D body "PLS-1.step": height 8.54, standoff -2.9, extent -40.615,-1.27 -38.075,1.27
3D body "PLS-1.step": height 8.54, standoff -2.9, extent -25.375,-1.27 -22.835,1.27
3D body "PLS-1.step": height 8.54, standoff -2.9, extent -20.295,-1.27 -17.755,1.27
3D body "PLS-1.step": height 8.54, standoff -2.9, extent -15.215,-1.27 -12.675,1.27
3D body "PLS-1.step": height 8.54, standoff -2.9, extent -12.675,-1.27 -10.135,1.27
3D body "PLS-1.step": height 8.54, standoff -2.9, extent -7.595,-1.27 -5.055,1.27
3D body "PLS-1.step": height 8.54, standoff -2.9, extent -2.515,-1.27 0.025,1.27
3D body "PLS-1.step": height 8.54, standoff -2.9, extent 2.565,-1.27 5.105,1.27
3D body "PLS-1.step": height 8.54, standoff -2.9, extent 7.645,-1.27 10.185,1.27
3D body "PLS-1.step": height 8.54, standoff -2.9, extent 12.725,-1.27 15.265,1.27
3D body "PLS-1.step": height 8.54, standoff -2.9, extent 15.265,-1.27 17.805,1.27
3D body "PLS-1.step": height 8.54, standoff -2.9, extent 17.805,-1.27 20.345,1.27
3D body "PLS-1.step": height 8.54, standoff -2.9, extent 22.885,-1.27 25.425,1.27
3D body "PLS-1.step": height 8.54, standoff -2.9, extent 27.965,-1.27 30.505,1.27
3D body "PLS-1.step": height 8.54, standoff -2.9, extent 33.045,-1.27 35.585,1.27
3D body "PLS-1.step": height 8.54, standoff -2.9, extent 38.125,-1.27 40.665,1.27
3D body "PLS-1.step": height 8.54, standoff -2.9, extent 43.205,-1.27 45.745,1.27
3D body "PLS-1.step": height 8.54, standoff -2.9, extent 48.285,-1.27 50.825,1.27

## HDR_M_1X39 [mm] "Connector; Header; 39 Position"
height 7.5
pads (39):
  round 1.4 / inner round 1.4 / far side oval 1.4x2.2 hole 1: 1(-45.72,0) 2(-43.18,0) 3(-40.64,0) 4(-38.1,0) 5(-35.56,0) 6(-33.02,0) 7(-30.48,0) 8(-27.94,0) 9(-25.4,0) 10(-22.86,0) 11(-20.32,0) 12(-17.78,0) 13(-15.24,0) 14(-12.7,0) 15(-10.16,0) 16(-7.62,0) 17(-5.08,0) 18(-2.54,0) 19(0,0) 20(2.54,0) 21(5.08,0) 22(7.62,0) 23(10.16,0) 24(12.7,0) 25(15.24,0) 26(17.78,0) 27(20.32,0) 28(22.86,0) 29(25.4,0) 30(27.94,0) 31(30.48,0) 32(33.02,0) 33(35.56,0) 34(38.1,0) 35(40.64,0) 36(43.18,0) 37(45.72,0) 38(48.26,0) 39(50.8,0)
TopOverlay:
  drawing of 275 lines, arcs and shapes, not listed
3D body "PLS-1.step": height 8.54, standoff -2.9, extent 49.555,-1.27 52.095,1.27
3D body "PLS-1.step": height 8.54, standoff -2.9, extent 44.475,-1.27 47.015,1.27
3D body "PLS-1.step": height 8.54, standoff -2.9, extent 39.395,-1.27 41.935,1.27
3D body "PLS-1.step": height 8.54, standoff -2.9, extent 34.315,-1.27 36.855,1.27
3D body "PLS-1.step": height 8.54, standoff -2.9, extent 29.235,-1.27 31.775,1.27
3D body "PLS-1.step": height 8.54, standoff -2.9, extent 24.155,-1.27 26.695,1.27
3D body "PLS-1.step": height 8.54, standoff -2.9, extent 19.075,-1.27 21.615,1.27
3D body "PLS-1.step": height 8.54, standoff -2.9, extent 13.995,-1.27 16.535,1.27
3D body "PLS-1.step": height 8.54, standoff -2.9, extent 11.455,-1.27 13.995,1.27
3D body "PLS-1.step": height 8.54, standoff -2.9, extent 8.915,-1.27 11.455,1.27
3D body "PLS-1.step": height 8.54, standoff -2.9, extent 3.835,-1.27 6.375,1.27
3D body "PLS-1.step": height 8.54, standoff -2.9, extent -1.245,-1.27 1.295,1.27
3D body "PLS-1.step": height 8.54, standoff -2.9, extent -6.325,-1.27 -3.785,1.27
3D body "PLS-1.step": height 8.54, standoff -2.9, extent -11.405,-1.27 -8.865,1.27
3D body "PLS-1.step": height 8.54, standoff -2.9, extent -16.485,-1.27 -13.945,1.27
3D body "PLS-1.step": height 8.54, standoff -2.9, extent -19.025,-1.27 -16.485,1.27
3D body "PLS-1.step": height 8.54, standoff -2.9, extent -24.105,-1.27 -21.565,1.27
3D body "PLS-1.step": height 8.54, standoff -2.9, extent -29.185,-1.27 -26.645,1.27
3D body "PLS-1.step": height 8.54, standoff -2.9, extent -44.425,-1.27 -41.885,1.27
3D body "PLS-1.step": height 8.54, standoff -2.9, extent -46.965,-1.27 -44.425,1.27
3D body "PLS-1.step": height 8.54, standoff -2.9, extent -41.885,-1.27 -39.345,1.27
3D body "PLS-1.step": height 8.54, standoff -2.9, extent -39.345,-1.27 -36.805,1.27
3D body "PLS-1.step": height 8.54, standoff -2.9, extent -36.805,-1.27 -34.265,1.27
3D body "PLS-1.step": height 8.54, standoff -2.9, extent -34.265,-1.27 -31.725,1.27
3D body "PLS-1.step": height 8.54, standoff -2.9, extent -31.725,-1.27 -29.185,1.27
3D body "PLS-1.step": height 8.54, standoff -2.9, extent -26.645,-1.27 -24.105,1.27
3D body "PLS-1.step": height 8.54, standoff -2.9, extent -21.565,-1.27 -19.025,1.27
3D body "PLS-1.step": height 8.54, standoff -2.9, extent -13.945,-1.27 -11.405,1.27
3D body "PLS-1.step": height 8.54, standoff -2.9, extent -8.865,-1.27 -6.325,1.27
3D body "PLS-1.step": height 8.54, standoff -2.9, extent -3.785,-1.27 -1.245,1.27
3D body "PLS-1.step": height 8.54, standoff -2.9, extent 1.295,-1.27 3.835,1.27
3D body "PLS-1.step": height 8.54, standoff -2.9, extent 6.375,-1.27 8.915,1.27
3D body "PLS-1.step": height 8.54, standoff -2.9, extent 16.535,-1.27 19.075,1.27
3D body "PLS-1.step": height 8.54, standoff -2.9, extent 21.615,-1.27 24.155,1.27
3D body "PLS-1.step": height 8.54, standoff -2.9, extent 26.695,-1.27 29.235,1.27
3D body "PLS-1.step": height 8.54, standoff -2.9, extent 31.775,-1.27 34.315,1.27
3D body "PLS-1.step": height 8.54, standoff -2.9, extent 36.855,-1.27 39.395,1.27
3D body "PLS-1.step": height 8.54, standoff -2.9, extent 41.935,-1.27 44.475,1.27
3D body "PLS-1.step": height 8.54, standoff -2.9, extent 47.015,-1.27 49.555,1.27

## HDR_M_1X40 [mm] "Connector; Header; 40 Position"
height 7.5
pads (40):
  round 1.4 / inner round 1.4 / far side oval 1.4x2.2 hole 1: 1(-49.53,0) 2(-46.99,0) 3(-44.45,0) 4(-41.91,0) 5(-39.37,0) 6(-36.83,0) 7(-34.29,0) 8(-31.75,0) 9(-29.21,0) 10(-26.67,0) 11(-24.13,0) 12(-21.59,0) 13(-19.05,0) 14(-16.51,0) 15(-13.97,0) 16(-11.43,0) 17(-8.89,0) 18(-6.35,0) 19(-3.81,0) 20(-1.27,0) 21(1.27,0) 22(3.81,0) 23(6.35,0) 24(8.89,0) 25(11.43,0) 26(13.97,0) 27(16.51,0) 28(19.05,0) 29(21.59,0) 30(24.13,0) 31(26.67,0) 32(29.21,0) 33(31.75,0) 34(34.29,0) 35(36.83,0) 36(39.37,0) 37(41.91,0) 38(44.45,0) 39(46.99,0) 40(49.53,0)
TopOverlay:
  drawing of 282 lines, arcs and shapes, not listed
3D body "PLS-1.step": height 8.54, standoff -2.9, extent 43.205,-1.27 45.745,1.27
3D body "PLS-1.step": height 8.54, standoff -2.9, extent 38.125,-1.27 40.665,1.27
3D body "PLS-1.step": height 8.54, standoff -2.9, extent 33.045,-1.27 35.585,1.27
3D body "PLS-1.step": height 8.54, standoff -2.9, extent 27.965,-1.27 30.505,1.27
3D body "PLS-1.step": height 8.54, standoff -2.9, extent 22.885,-1.27 25.425,1.27
3D body "PLS-1.step": height 8.54, standoff -2.9, extent 17.805,-1.27 20.345,1.27
3D body "PLS-1.step": height 8.54, standoff -2.9, extent 12.725,-1.27 15.265,1.27
3D body "PLS-1.step": height 8.54, standoff -2.9, extent 2.565,-1.27 5.105,1.27
3D body "PLS-1.step": height 8.54, standoff -2.9, extent -2.515,-1.27 0.025,1.27
3D body "PLS-1.step": height 8.54, standoff -2.9, extent -7.595,-1.27 -5.055,1.27
3D body "PLS-1.step": height 8.54, standoff -2.9, extent -12.675,-1.27 -10.135,1.27
3D body "PLS-1.step": height 8.54, standoff -2.9, extent -17.755,-1.27 -15.215,1.27
3D body "PLS-1.step": height 8.54, standoff -2.9, extent -25.375,-1.27 -22.835,1.27
3D body "PLS-1.step": height 8.54, standoff -2.9, extent -30.455,-1.27 -27.915,1.27
3D body "PLS-1.step": height 8.54, standoff -2.9, extent -35.535,-1.27 -32.995,1.27
3D body "PLS-1.step": height 8.54, standoff -2.9, extent -38.075,-1.27 -35.535,1.27
3D body "PLS-1.step": height 8.54, standoff -2.9, extent -40.615,-1.27 -38.075,1.27
3D body "PLS-1.step": height 8.54, standoff -2.9, extent -43.155,-1.27 -40.615,1.27
3D body "PLS-1.step": height 8.54, standoff -2.9, extent -45.695,-1.27 -43.155,1.27
3D body "PLS-1.step": height 8.54, standoff -2.9, extent -50.775,-1.27 -48.235,1.27
3D body "PLS-1.step": height 8.54, standoff -2.9, extent -48.235,-1.27 -45.695,1.27
3D body "PLS-1.step": height 8.54, standoff -2.9, extent -32.995,-1.27 -30.455,1.27
3D body "PLS-1.step": height 8.54, standoff -2.9, extent -27.915,-1.27 -25.375,1.27
3D body "PLS-1.step": height 8.54, standoff -2.9, extent -22.835,-1.27 -20.295,1.27
3D body "PLS-1.step": height 8.54, standoff -2.9, extent -20.295,-1.27 -17.755,1.27
3D body "PLS-1.step": height 8.54, standoff -2.9, extent -15.215,-1.27 -12.675,1.27
3D body "PLS-1.step": height 8.54, standoff -2.9, extent -10.135,-1.27 -7.595,1.27
3D body "PLS-1.step": height 8.54, standoff -2.9, extent -5.055,-1.27 -2.515,1.27
3D body "PLS-1.step": height 8.54, standoff -2.9, extent 0.025,-1.27 2.565,1.27
3D body "PLS-1.step": height 8.54, standoff -2.9, extent 5.105,-1.27 7.645,1.27
3D body "PLS-1.step": height 8.54, standoff -2.9, extent 7.645,-1.27 10.185,1.27
3D body "PLS-1.step": height 8.54, standoff -2.9, extent 10.185,-1.27 12.725,1.27
3D body "PLS-1.step": height 8.54, standoff -2.9, extent 48.285,-1.27 50.825,1.27
3D body "PLS-1.step": height 8.54, standoff -2.9, extent 15.265,-1.27 17.805,1.27
3D body "PLS-1.step": height 8.54, standoff -2.9, extent 20.345,-1.27 22.885,1.27
3D body "PLS-1.step": height 8.54, standoff -2.9, extent 25.425,-1.27 27.965,1.27
3D body "PLS-1.step": height 8.54, standoff -2.9, extent 30.505,-1.27 33.045,1.27
3D body "PLS-1.step": height 8.54, standoff -2.9, extent 35.585,-1.27 38.125,1.27
3D body "PLS-1.step": height 8.54, standoff -2.9, extent 40.665,-1.27 43.205,1.27
3D body "PLS-1.step": height 8.54, standoff -2.9, extent 45.745,-1.27 48.285,1.27

## HDR_M_1X50 [mm] "Connector; Header; 50 Position"
height 7.5
pads (50):
  round 1.4 / inner round 1.4 / far side oval 1.4x2.2 hole 1: 1(-62.23,0) 2(-59.69,0) 3(-57.15,0) 4(-54.61,0) 5(-52.07,0) 6(-49.53,0) 7(-46.99,0) 8(-44.45,0) 9(-41.91,0) 10(-39.37,0) 11(-36.83,0) 12(-34.29,0) 13(-31.75,0) 14(-29.21,0) 15(-26.67,0) 16(-24.13,0) 17(-21.59,0) 18(-19.05,0) 19(-16.51,0) 20(-13.97,0) 21(-11.43,0) 22(-8.89,0) 23(-6.35,0) 24(-3.81,0) 25(-1.27,0) 26(1.27,0) 27(3.81,0) 28(6.35,0) 29(8.89,0) 30(11.43,0) 31(13.97,0) 32(16.51,0) 33(19.05,0) 34(21.59,0) 35(24.13,0) 36(26.67,0) 37(29.21,0) 38(31.75,0) 39(34.29,0) 40(36.83,0) 41(39.37,0) 42(41.91,0) 43(44.45,0) 44(46.99,0) 45(49.53,0) 46(52.07,0) 47(54.61,0) 48(57.15,0) 49(59.69,0) 50(62.23,0)
TopOverlay:
  drawing of 352 lines, arcs and shapes, not listed
3D body "PLS-1.step": height 8.54, standoff -2.9, extent 58.445,-1.27 60.985,1.27
3D body "PLS-1.step": height 8.54, standoff -2.9, extent 53.365,-1.27 55.905,1.27
3D body "PLS-1.step": height 8.54, standoff -2.9, extent 48.285,-1.27 50.825,1.27
3D body "PLS-1.step": height 8.54, standoff -2.9, extent 43.205,-1.27 45.745,1.27
3D body "PLS-1.step": height 8.54, standoff -2.9, extent 38.125,-1.27 40.665,1.27
3D body "PLS-1.step": height 8.54, standoff -2.9, extent 60.985,-1.27 63.525,1.27
3D body "PLS-1.step": height 8.54, standoff -2.9, extent 40.665,-1.27 43.205,1.27
3D body "PLS-1.step": height 8.54, standoff -2.9, extent 45.745,-1.27 48.285,1.27
3D body "PLS-1.step": height 8.54, standoff -2.9, extent 50.825,-1.27 53.365,1.27
3D body "PLS-1.step": height 8.54, standoff -2.9, extent 55.905,-1.27 58.445,1.27
3D body "PLS-1.step": height 8.54, standoff -2.9, extent 30.505,-1.27 33.045,1.27
3D body "PLS-1.step": height 8.54, standoff -2.9, extent 25.425,-1.27 27.965,1.27
3D body "PLS-1.step": height 8.54, standoff -2.9, extent 20.345,-1.27 22.885,1.27
3D body "PLS-1.step": height 8.54, standoff -2.9, extent 15.265,-1.27 17.805,1.27
3D body "PLS-1.step": height 8.54, standoff -2.9, extent 10.185,-1.27 12.725,1.27
3D body "PLS-1.step": height 8.54, standoff -2.9, extent 5.105,-1.27 7.645,1.27
3D body "PLS-1.step": height 8.54, standoff -2.9, extent 0.025,-1.27 2.565,1.27
3D body "PLS-1.step": height 8.54, standoff -2.9, extent -10.135,-1.27 -7.595,1.27
3D body "PLS-1.step": height 8.54, standoff -2.9, extent -15.215,-1.27 -12.675,1.27
3D body "PLS-1.step": height 8.54, standoff -2.9, extent -20.295,-1.27 -17.755,1.27
3D body "PLS-1.step": height 8.54, standoff -2.9, extent -25.375,-1.27 -22.835,1.27
3D body "PLS-1.step": height 8.54, standoff -2.9, extent -30.455,-1.27 -27.915,1.27
3D body "PLS-1.step": height 8.54, standoff -2.9, extent -38.075,-1.27 -35.535,1.27
3D body "PLS-1.step": height 8.54, standoff -2.9, extent -43.155,-1.27 -40.615,1.27
3D body "PLS-1.step": height 8.54, standoff -2.9, extent -48.235,-1.27 -45.695,1.27
3D body "PLS-1.step": height 8.54, standoff -2.9, extent -50.775,-1.27 -48.235,1.27
3D body "PLS-1.step": height 8.54, standoff -2.9, extent -53.315,-1.27 -50.775,1.27
3D body "PLS-1.step": height 8.54, standoff -2.9, extent -55.855,-1.27 -53.315,1.27
3D body "PLS-1.step": height 8.54, standoff -2.9, extent -58.395,-1.27 -55.855,1.27
3D body "PLS-1.step": height 8.54, standoff -2.9, extent -63.475,-1.27 -60.935,1.27
3D body "PLS-1.step": height 8.54, standoff -2.9, extent -60.935,-1.27 -58.395,1.27
3D body "PLS-1.step": height 8.54, standoff -2.9, extent -45.695,-1.27 -43.155,1.27
3D body "PLS-1.step": height 8.54, standoff -2.9, extent -40.615,-1.27 -38.075,1.27
3D body "PLS-1.step": height 8.54, standoff -2.9, extent -35.535,-1.27 -32.995,1.27
3D body "PLS-1.step": height 8.54, standoff -2.9, extent -32.995,-1.27 -30.455,1.27
3D body "PLS-1.step": height 8.54, standoff -2.9, extent -27.915,-1.27 -25.375,1.27
3D body "PLS-1.step": height 8.54, standoff -2.9, extent -22.835,-1.27 -20.295,1.27
3D body "PLS-1.step": height 8.54, standoff -2.9, extent -17.755,-1.27 -15.215,1.27
3D body "PLS-1.step": height 8.54, standoff -2.9, extent -12.675,-1.27 -10.135,1.27
3D body "PLS-1.step": height 8.54, standoff -2.9, extent -7.595,-1.27 -5.055,1.27
3D body "PLS-1.step": height 8.54, standoff -2.9, extent -5.055,-1.27 -2.515,1.27
3D body "PLS-1.step": height 8.54, standoff -2.9, extent -2.515,-1.27 0.025,1.27
3D body "PLS-1.step": height 8.54, standoff -2.9, extent 35.585,-1.27 38.125,1.27
3D body "PLS-1.step": height 8.54, standoff -2.9, extent 2.565,-1.27 5.105,1.27
3D body "PLS-1.step": height 8.54, standoff -2.9, extent 7.645,-1.27 10.185,1.27
3D body "PLS-1.step": height 8.54, standoff -2.9, extent 12.725,-1.27 15.265,1.27
3D body "PLS-1.step": height 8.54, standoff -2.9, extent 17.805,-1.27 20.345,1.27
3D body "PLS-1.step": height 8.54, standoff -2.9, extent 22.885,-1.27 25.425,1.27
3D body "PLS-1.step": height 8.54, standoff -2.9, extent 27.965,-1.27 30.505,1.27
3D body "PLS-1.step": height 8.54, standoff -2.9, extent 33.045,-1.27 35.585,1.27

## HDR_M_2X2 [mm] "Connector; Header; 2x2 Position"
pads (4):
  round 1.4 / inner round 1.4 / far side oval 1.4x2.2 hole 1: 1(-1.27,-1.27)
  round 1.4 / inner round 1.4 / far side oval 1.4x2.2 hole 1 mask+0.1: 2(-1.27,1.27) 3(1.27,-1.27) 4(1.27,1.27)
TopOverlay:
  circle w0.2: c-2.8,-2.77 r0.2
  lines w0.2: -2.27,-0.03 -2.57,0.27 -2.57,2.27 -2.27,2.57 -0.27,2.57 0.03,2.27 ; -2.27,0.03 -2.57,-0.27 -2.57,-2.27 -2.27,-2.57 -0.27,-2.57 0.03,-2.27 ; -0.03,-2.27 0.27,-2.57 2.27,-2.57 2.57,-2.27 2.57,-0.27 2.27,0.03 ; -0.03,2.27 0.27,2.57 2.27,2.57 2.57,2.27 2.57,0.27 2.27,-0.03
3D body "User Library-Header_Male_2Pin.STEP": height 8.54, standoff -3, extent -2.56,-2.54 -0.07,2.54
3D body "User Library-Header_Male_2Pin.STEP": height 8.54, standoff -3, extent -0.02,-2.54 2.47,2.54

## HDR_M_2X3 [mm] "Connector; Header; 3x2 Position"
pads (6):
  round 1.4 / inner round 1.4 / far side oval 1.4x2.2 hole 1 mask+0.1: 1(-2.54,-1.27) 2(-2.54,1.27) 3(0,-1.27) 4(0,1.27) 5(2.54,-1.27) 6(2.54,1.27)
TopOverlay:
  circle w0.2: c-4,-2.77 r0.2
  lines w0.2: -3.54,-0.03 -3.84,0.27 -3.84,2.27 -3.54,2.57 -1.54,2.57 -1.24,2.27 ; -3.54,0.03 -3.84,-0.27 -3.84,-2.27 -3.54,-2.57 -1.54,-2.57 -1.24,-2.27 ; -1.3,-2.27 -1,-2.57 1,-2.57 1.3,-2.27 ; -1.3,2.27 -1,2.57 1,2.57 1.3,2.27 ; 1.24,-2.27 1.54,-2.57 3.54,-2.57 3.84,-2.27 3.84,-0.27 3.54,0.03 ; 1.24,2.27 1.54,2.57 3.54,2.57 3.84,2.27 3.84,0.27 3.54,-0.03
3D body "User Library-HEADER, 2X3, 2_54MM X 2_54MM PITCH, VERT, TH.step": height 8.38, standoff -3.81, extent -3.81,-2.6 3.81,2.48

## HDR_M_2X4 [mm] "Male Header 2X04 with 2.54 mm Pitch"
pads (8):
  round 1.4 / inner round 1.4 / far side oval 1.4x2.2 hole 1 mask+0.1: 1(-3.81,-1.27) 2(-3.81,1.27) 3(-1.27,-1.27) 4(-1.27,1.27) 5(1.27,-1.27) 6(1.27,1.27) 7(3.81,-1.27) 8(3.81,1.27)
TopOverlay:
  circle w0.2: c-5.1,-2.6 r0.2
  lines w0.2: -5.08,-1.905 -5.08,-0.635 -4.445,0 -5.08,0.635 -5.08,1.905 -4.445,2.54 -3.175,2.54 -2.54,1.905 -1.905,2.54 -0.635,2.54 0,1.905 0.635,2.54 1.905,2.54 2.54,1.905 3.175,2.54 4.445,2.54 5.08,1.905 5.08,0.635 4.445,0 5.08,-0.635 5.08,-1.905 4.445,-2.54 3.175,-2.54 2.54,-1.905 1.905,-2.54 0.635,-2.54 0,-1.905 -0.635,-2.54 -1.905,-2.54 -2.54,-1.905 -3.175,-2.54 -4.445,-2.54 -5.08,-1.905
3D body "User Library-Header_Male_4Pin.STEP": height 8.54, standoff -3, extent -5.08,0 5.08,2.49
3D body "User Library-Header_Male_4Pin.STEP": height 8.54, standoff -3, extent -5.08,-2.49 5.08,0

## HDR_M_2X5 [mm] "Male Header 2X05 with 2.54 mm Pitch"
pads (10):
  round 1.4 / inner round 1.4 / far side oval 1.4x2.2 hole 1: 1(-5.08,-1.27) 2(-5.08,1.27) 3(-2.54,-1.27) 4(-2.54,1.27) 5(0,-1.27) 6(0,1.27) 7(2.54,-1.27) 8(2.54,1.27) 9(5.08,-1.27) 10(5.08,1.27)
TopOverlay:
  circle w0.2: c-6.45,-2.87 r0.2
  lines w0.254: -3.81,-2.032 -3.303,-2.538 -1.778,-2.538 -1.27,-2.03 -1.27,2.034 -0.762,2.542 0.761,2.542 1.27,2.032 ; -3.81,2.032 -4.319,2.542 -5.842,2.542 -6.35,2.034 -6.35,-2.032 -5.843,-2.538 -4.318,-2.538 -3.81,-2.03 -3.81,2.034 -3.302,2.542 -1.779,2.542 -1.27,2.032 ; -1.27,-2.032 -0.763,-2.538 0.762,-2.538 1.27,-2.03 1.27,2.034 1.778,2.542 3.301,2.542 3.81,2.032 ; 1.27,-2.032 1.777,-2.538 3.302,-2.538 3.81,-2.03 3.81,2.034 4.318,2.542 5.841,2.542 6.35,2.032 ; 3.81,-2.032 4.317,-2.538 5.842,-2.538 6.35,-2.03 6.35,2.034
  text "9" at 5.588,-3.634 h1
  text "10" at 5.588,3.048 h1
  text "7" at 3.048,-3.682 h1
  text "8" at 3.048,3.048 h1
  text "5" at 0.508,-3.682 h1
  text "6" at 0.508,3.048 h1
  text "3" at -2.032,-3.682 h1
  text "4" at -2.032,3.048 h1
  text "1" at -4.572,-3.253 h1
  text "2" at -4.572,3.048 h1
3D body "PIN.STEP": height 8.43, standoff -2.49, extent -6.35,-2.54 -3.81,0
3D body "PIN_mid.STEP": height 8.43, standoff -2.49, extent -1.27,0 1.27,2.54
3D body "PIN_mid.STEP": height 8.43, standoff -2.49, extent 1.27,0 3.81,2.54
3D body "PIN_mid.STEP": height 8.43, standoff -2.49, extent -3.81,0 -1.27,2.54
3D body "PIN_mid.STEP": height 8.43, standoff -2.49, extent -3.81,-2.54 -1.27,0
3D body "PIN_mid.STEP": height 8.43, standoff -2.49, extent -1.27,-2.54 1.27,0
3D body "PIN_mid.STEP": height 8.43, standoff -2.49, extent 1.27,-2.54 3.81,0
3D body "PIN.STEP": height 8.43, standoff -2.49, extent -6.35,0 -3.81,2.54
3D body "PIN.STEP": height 8.43, standoff -2.49, extent 3.81,0 6.35,2.54
3D body "PIN.STEP": height 8.43, standoff -2.49, extent 3.81,-2.54 6.35,0